# EAGLE library part GNQ-4042AD-21 (library Displays)
7 Segment quad digit led display. Datasheet <http://ledlamps.ru/GNQ-4042Ax-Bx.pdf>
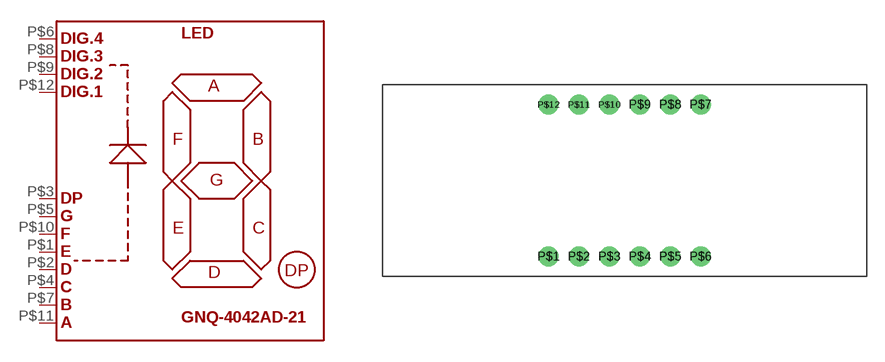
[diagram p6: symbol with the pads of 4DIG_7SEG_40.4X16_H7; footprint 4DIG_7SEG_40.4X16_H7]

Designator prefix LED

## GNQ-4042AD-21  [4DIG_7SEG_40.4X16_H7]
P$1  1
P$2  2
P$3  3
P$4  4
P$5  5
P$6  6
P$7  7
P$8  8
P$9  9
P$10  10
P$11  11
P$12  12

## Footprint 4DIG_7SEG_40.4X16_H7 (pad centres in mm)
drill 0.7 pad 1.676: P$1 -6.35,-6.35; P$2 -3.81,-6.35; P$3 -1.27,-6.35; P$4 1.27,-6.35; P$5 3.81,-6.35; P$6 6.35,-6.35; P$7 6.35,6.35; P$8 3.81,6.35; P$9 1.27,6.35; P$10 -1.27,6.35; P$11 -3.81,6.35; P$12 -6.35,6.35